# Altium footprint library TO92.PcbLib: 1 footprints
Each footprint in its own frame and in the unit in brackets; x right, y up, seen from the top. Pads: shape width x height; smd on the part's side, far side on the other; paste and mask are expansions set on the pad; w line width, h text height; cw(c..) or ccw(c..) is an arc to the next point about the centre after c.
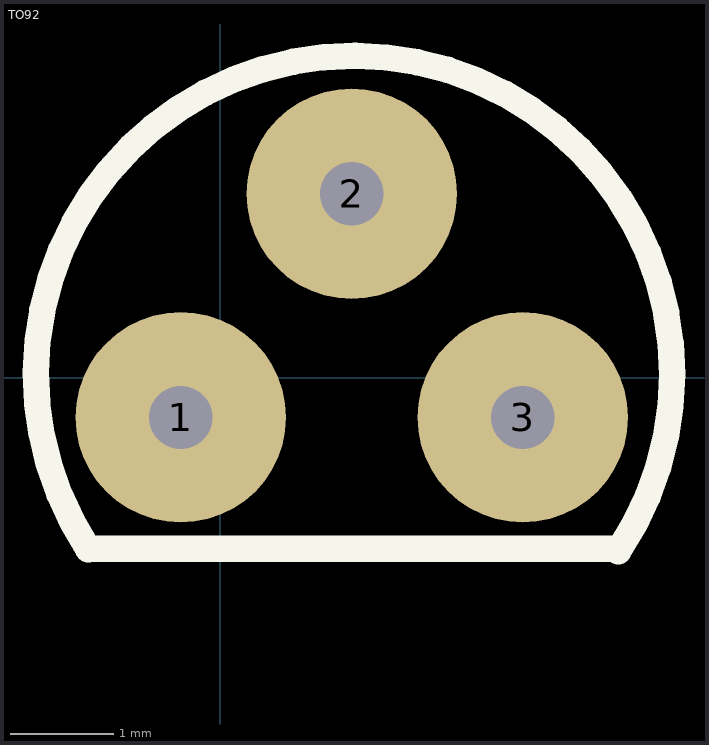
[diagram p0: the footprint, top view; thin cyan lines are the x and y axes]

## TO92 [mil]
pads (3):
  round 80 hole 24: 1(-15,-15) 2(50,70) 3(115,-15)
Top Overlay:
  lines w10: -50.14,-65.09 cw(c50.85,1.47) 151.31,-65.88 ; -50,-65 150,-65
3D body "step_temp.STEP": height 345.28, standoff -511.81, extent -60,-57.52 162.83,85